# Altium schematic symbol library 691 318 700 0xx.SchLib: 6 symbols
Pins are listed as number, name and electrical type; pins without a type are passive.

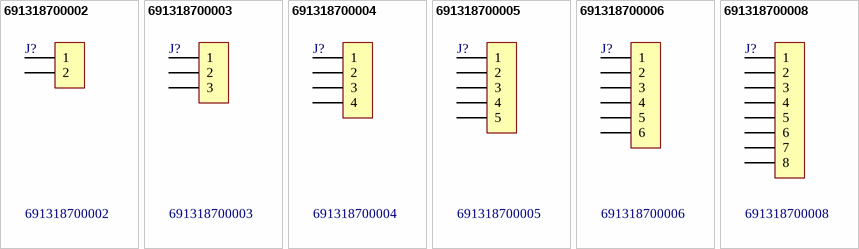
[diagram p0: symbols 691318700002 to 691318700008]

## 691318700002
designator J?
WR-TBL Terminal block - serie 3187 - 5.00mm; Manufacturer: Würth Elektronik eiSos GmbH; ComponentLink1 Description: Manufacturer; ComponentLink2 Description: Datasheet; NoPins: 02; Created Date: 6 January 2014; partNo: 691318700002; ComponentLink1URL: http://www.we-online.com; ComponentLink2URL: http://katalog.we-online.de/em/datasheet/6913187000xx.pdf; Created by: Karrer Zheng
footprint 691318700002
pins: 1, 2

## 691318700003
designator J?
WR-TBL Terminal block - serie 3187 - 5.00mm; Manufacturer: Würth Elektronik eiSos GmbH; ComponentLink1 Description: Manufacturer; ComponentLink2 Description: Datasheet; NoPins: 03; Created Date: 6 January 2014; partNo: 691318700003; ComponentLink1URL: http://www.we-online.com; ComponentLink2URL: http://katalog.we-online.de/em/datasheet/6913187000xx.pdf; Created by: Karrer Zheng
footprint 691318700003
pins: 1, 2, 3

## 691318700004
designator J?
WR-TBL Terminal block - serie 3187 - 5.00mm; Manufacturer: Würth Elektronik eiSos GmbH; ComponentLink1 Description: Manufacturer; ComponentLink2 Description: Datasheet; NoPins: 04; Created Date: 6 January 2014; partNo: 691318700004; ComponentLink1URL: http://www.we-online.com; ComponentLink2URL: http://katalog.we-online.de/em/datasheet/6913187000xx.pdf; Created by: Karrer Zheng
footprint 691318700004
pins: 1, 2, 3, 4

## 691318700005
designator J?
WR-TBL Terminal block - serie 3187 - 5.00mm; Manufacturer: Würth Elektronik eiSos GmbH; ComponentLink1 Description: Manufacturer; ComponentLink2 Description: Datasheet; NoPins: 05; Created Date: 6 January 2014; partNo: 691318700005; ComponentLink1URL: http://www.we-online.com; ComponentLink2URL: http://katalog.we-online.de/em/datasheet/6913187000xx.pdf; Created by: Karrer Zheng
footprint 691318700005
pins: 1, 2, 3, 4, 5

## 691318700006
designator J?
WR-TBL Terminal block - serie 3187 - 5.00mm; Manufacturer: Würth Elektronik eiSos GmbH; ComponentLink1 Description: Manufacturer; ComponentLink2 Description: Datasheet; NoPins: 06; Created Date: 6 January 2014; partNo: 691318700006; ComponentLink1URL: http://www.we-online.com; ComponentLink2URL: http://katalog.we-online.de/em/datasheet/6913187000xx.pdf; Created by: Karrer Zheng
footprint 691318700006
pins: 1, 2, 3, 4, 5, 6

## 691318700008
designator J?
WR-TBL Terminal block - serie 3187 - 5.00mm; Manufacturer: Würth Elektronik eiSos GmbH; ComponentLink1 Description: Manufacturer; ComponentLink2 Description: Datasheet; NoPins: 08; Created Date: 6 January 2014; partNo: 691318700008; ComponentLink1URL: http://www.we-online.com; ComponentLink2URL: http://katalog.we-online.de/em/datasheet/6913187000xx.pdf; Created by: Karrer Zheng
footprint 691318700008
pins: 1, 2, 3, 4, 5, 6, 7, 8